# Altium schematic symbol library water_quality.SchLib: 12 symbols
Pins are listed as number, name and electrical type; pins without a type are passive.

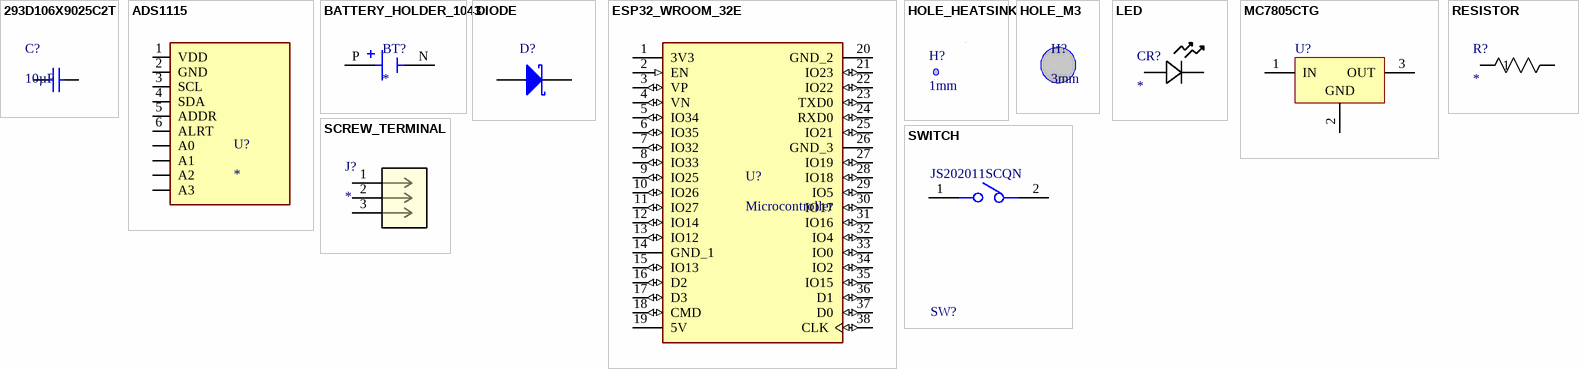
[diagram p0: symbols 293D106X9025C2T to SWITCH]

## 293D106X9025C2T
designator C?, comment 10µF
Tantalum Capacitor, Polarized, Tantalum (dry/solid), 25V, 10% +Tol, 10% -Tol, 10uF, Surface Mount, 2312; Manufacturer: Vishay; Manufacturer Part Number: 293D106X9025C2T; ESR (Equivalent Series Resistance): 1.5R; Leakage Current: 2.5uA; Ripple Current: 270mA; Tan Delta: 0.06; Supplier: Arrow Electronics; Supplier Part Number: 293D106X9025C2T; RoHS: Yes; Category: Tantalum Capacitors; Pricing: 500=0.2335, 1000=0.2312, 2000=0.2289, 2500=0.2266, 3000=0.2243, 4000=0.2221, 5000=0.2198, 10000=0.2176, 20000=0.2155 (USD); Mounting Technology: Surface Mount; Pins: 2; Dielectric Material: Tantalum; Package Shape: Rectangular; Case/Package: 2312; Terminal Finish: Tin; Min Operating Temperature: -55°C; Max Operating Temperature: 125°C; Polarity: Polarized; Value: 10uF; Capacitor Type: Tantalum; Tolerance  (fill in as +-): 10%; Package Style: SMTMeter; Packaging: Tape and Reel; Tolerance (fill in as +-): 10%; Rated DC Voltage (URdc): 25V; Termination: Wraparound; Length: 6mm; Width: 3.2mm; Height: 2.5mm; RoHS Compliant: Yes; ComponentLink1URL: https://datasheet.ciiva.com:443/pdfs/VipMasterIC/IC/VISH/VISHS28296/VISHS28296-1.pdf?src-supplier=IHS+Markit; ComponentLink1Description: https://datasheet.ciiva.com:443/pdfs/VipMasterIC/IC/VISH/VISHS28296/VISHS28296-1.pdf?src-supplier=IHS+Markit; ComponentLink2URL: https://datasheet.ciiva.com/12899/293d-239871-12899927.pdf?src-supplier=Mouser; ComponentLink2Description: https://datasheet.ciiva.com/12899/293d-239871-12899927.pdf?src-supplier=Mouser; ComponentLink3URL: https://datasheet.ciiva.com/16332/293d-16332437.pdf?src-supplier=Future+Electronics; ComponentLink3Description: https://datasheet.ciiva.com/16332/293d-16332437.pdf?src-supplier=Future+Electronics
footprint 293D106X9025C2T
pins: 1 (power), 2 (power)

## ADS1115
designator U?
MF: {'manufacturer': u'Adafruit Industries LLC'}; MP: 1085; Package: None; Price: None; Value: *; Availability: Unavailable
footprint ADS1115
pins: 1 VDD (power), 2 GND (power), 3 SCL (io), 4 SDA (io), 5 ADDR (io), 6 ALRT (io), 7 A0 (io), 8 A1 (io), 9 A2 (io), 10 A3 (io)

## BATTERY_HOLDER_1043
designator BT?
SMT Polarized Holder for 18650 Battery; MF: Keystone Electronics; MP: 1042P; Price: None; Purchase-URL: https://pricing.snapeda.com/search/part/1042P/?ref=eda; Check_prices: https://www.snapeda.com/parts/1042P/Keystone+Electronics/view-part/?ref=eda; Value: *; SnapEDA_Link: https://www.snapeda.com/parts/1042P/Keystone+Electronics/view-part/?ref=snap; Availability: In Stock; Package: None
footprint BATTERY_HOLDER_1043
pins: N NEG, P POS

## DIODE
designator D?
Small Signal Schottky Diode, 150 mA, 100 V, -65 to 125 degC, 2-Pin DO-35, RoHS, Tape and Reel; Manufacturer: STMicroelectronics; SVHC: NoSVHC(15-Jun-2015); Diode Configuration: Single; No. of Pins: 2Pins; Forward Surge Current Ifsm Max: 750mA; Repetitive Reverse Voltage Vrrm Max: 100V; Diode Case Style: DO-204AH; Forward Voltage VF Max: 1V; Forward Current If(AV): 150mA; Manufacturer URL: http://www.st.com/; Packaging: Tape&Reel; Package Reference: DO-35-2; Datasheet URL: http://www.st.com/content/ccc/resource/technical/document/datasheet/group1/11/76/e4/a3/df/07/49/14/CD00000767/files/CD00000767.pdf/jcr:content/translations/en.CD00000767.pdf; Diode Type: Schottky; Mounting Technology: ThroughHole; Package Description: 2-Pin Axial Lead, Dia 1.765 mm, Body Length 3.775 mm; Product Range: -; Datasheet Version: Rev. 2.1, 10/2001; Operating Temperature Max: 125°C
footprint DIODE (THD, 2-Leads, Dia 1.765 mm, Body Length 3.775 mm)
pins: 1 A, 2 K

## ESP32_WROOM_32E
designator U?, comment Microcontroller
ESP32-WROOM-32E Transceiver; 802.11 b/g/n (Wi-Fi, WiFi, WLAN), BluetoothÂ® Smart Ready 4.x Dual Mode 2.4GHz Evaluation Board; MF: Espressif Systems; MP: ESP32-DEVKITC-32E; SnapEDA_Link: https://www.snapeda.com/parts/ESP32-DEVKITC-32E/Espressif+Systems/view-part/?ref=snap; Package: None; Value: *; Check_prices: https://www.snapeda.com/parts/ESP32-DEVKITC-32E/Espressif+Systems/view-part/?ref=eda
footprint ESP32_WROOM_32E
pins: 1 3V3 (power), 2 EN (in), 3 VP (io), 4 VN (io), 5 IO34 (io), 6 IO35 (io), 7 IO32 (io), 8 IO33 (io), 9 IO25 (io), 10 IO26 (io), 11 IO27 (io), 12 IO14 (io), 13 IO12 (io), 14 GND_1 (power), 15 IO13 (io), 16 D2 (io), 17 D3 (io), 18 CMD (io), 19 5V (power), 20 GND_2 (power), 21 IO23 (io), 22 IO22 (io), 23 TXD0 (io), 24 RXD0 (io), 25 IO21 (io), 26 GND_3 (power), 27 IO19 (io), 28 IO18 (io), 29 IO5 (io), 30 IO17 (io), 31 IO16 (io), 32 IO4 (io), 33 IO0 (io), 34 IO2 (io), 35 IO15 (io), 36 D1 (io), 37 D0 (io), 38 CLK (io)

## HOLE_HEATSINK
designator H?, comment 1mm
ComponentLink1Description: New link; ComponentLink1URL: *
footprint HOLE_HEATSINK

## HOLE_M3
designator H?, comment 3mm
footprint HOLE_M3

## LED
designator CR?
No Description Available; Mfr_Name: Wolfspeed
footprint LED
pins: 1, 2

## MC7805CTG
designator U?, comment 5V, 1A  (value not drawn)
Positive Voltage Regulator, 1 A, 5 V, 0 to 125 degC, 3-Pin TO-220, RoHS, Tube; Manufacturer: ON Semiconductor; Resistance, Thermal, Junction to Case: 5degC/W; Voltage, Supply: 35V; Regulator Function: Standard; Temperature, Operating, Maximum: +125degC; Load Regulation: 25mV; Regulator Type: PositiveVoltageOut; Regulation, Load: 1.3mV; Number of Outputs: 1; Temperature, Operating, Range: 0to+125degC; Regulation, Line: 0.5mV; Line Regulation: 20mV; Voltage, Input Range: Maximumof35V; Output Type: Fixed; Current, Quiescent Supply: 6.5mA; Dropout Voltage: 2V; Temperature, Operating, Minimum: 0degC; Package Version: Rev. A, 11/2010; Current, Supply: 3.2mA; Voltage, Noise: 10μV/V; Package Type: TO-220; Voltage, Input, High Level: 35V; Current, Output, Maximum: 1A; Datasheet URL: http://www.onsemi.com/pub_link/Collateral/MC7800-D.PDF; Dimensions: 10.28x4.82x15.75mm; Width: 4.82mm; Type: VoltageRegulator; Mounting Type: ThroughHole; Polarity: Positive; Datasheet Version: Rev. 27, 11/2014; Height: 15.75mm; Dropout Voltage Measurement Current: 1A; Package Description: 3-Pin Flange Mount, Vertical Straight Lead, Body 9.97 x 4.445 mm, Pitch 2.54 mm; Manufacturer URL: http://www.onsemi.com/; Voltage, Dropout: 2V; Length: 10.28mm; Voltage, Output: 5V; Number of Pins: 3; Package Reference: TO-220-3-221AB-01
footprint MC7805CTG
pins: 1 IN (power), 2 GND (power), 3 OUT (power)

## RESISTOR
designator R?
No Description Available; Mfr_Name: Yageo
footprint RESISTOR
pins: 1, 2

## SCREW_TERMINAL
designator J?
No Description Available; Mfr_Name: On Shore Technology; RefDes: RefDes; Type: Type
footprint SCREW_TERMINAL (5,00mm - modular - blue - Horizontal entry with pressure clamp - 12,6mm height - 03p)
pins: 1, 2, 3

## SWITCH
designator SW?, comment JS202011SCQN
SWITCH SLIDE DPDT 300MA 6V; Switch Function: On-On; Actuator Type: Standard; Switch Travel: 2mm; Actuator Color: Black; Contact Resistance: 70mR; Electrical Life: 5000Cycles; Actuator Material: Nylon; REACH SVHC: No SVHC; Series: JS; Min Operating Temperature: -20°C; Depth: 7.5mm; Housing Material: Nylon; Voltage Rating (DC): 6V; Max Operating Temperature: 85°C; Contact Current Rating: 300mA; Package Quantity: 1; Contact Plating: Silver; Contact Material: Copper Alloy; Throw Configuration: DPDT; Current Rating: 300mA; Orientation: Vertical; Max Current Rating: 300mA; Max Voltage Rating (DC): 6V; Flammability Rating: UL94 V-2; Length: 9mm; Packaging: Tape and Reel; Mount: Surface Mount; Actuator Length: 2mm; Lead Free: Lead Free; Termination: Gull Wing; Radiation Hardening: No
footprint SWITCH
pins: 1, 2